# Altium footprint library Connectors.PcbLib: 23 footprints (part 1 of 2)
Each footprint in its own frame and in the unit in brackets; x right, y up, seen from the top. Pads: shape width x height; smd on the part's side, far side on the other; paste and mask are expansions set on the pad; w line width, h text height; cw(c..) or ccw(c..) is an arc to the next point about the centre after c.
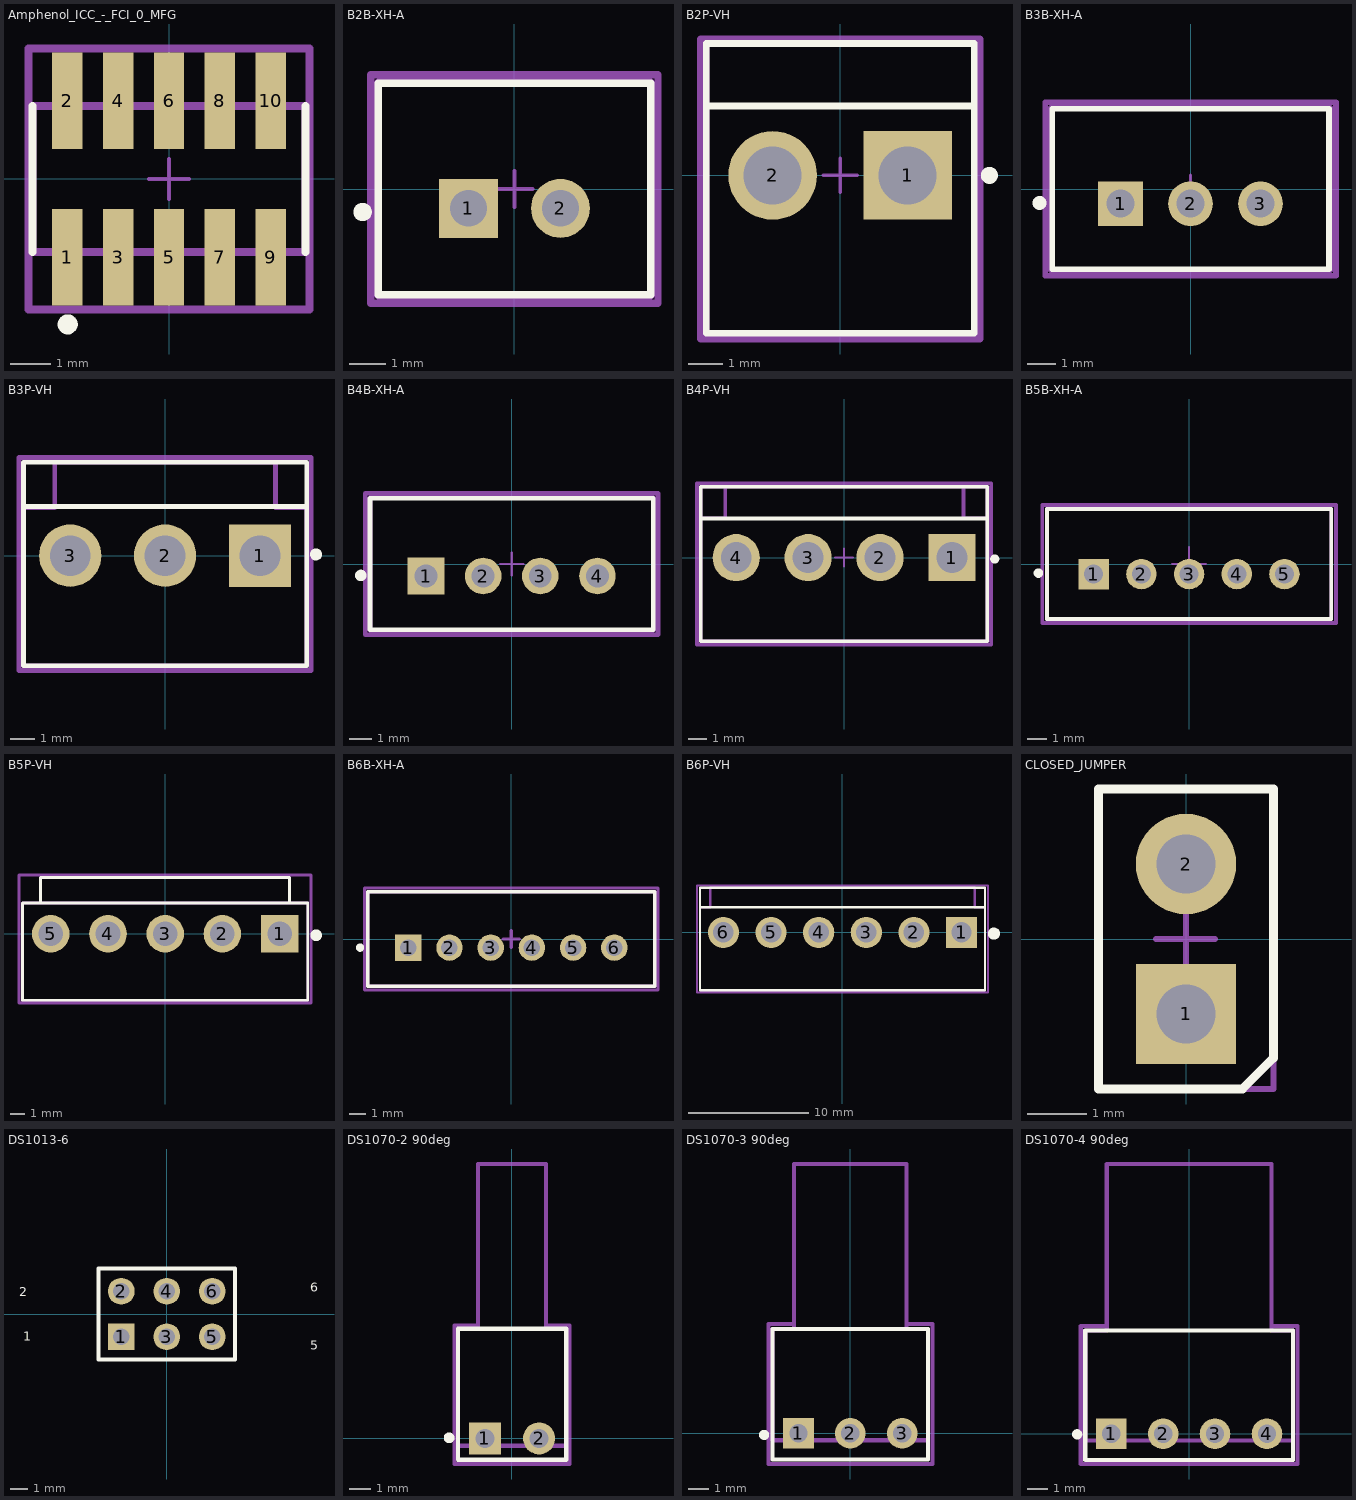
[diagram p0: the footprints below, top view; thin cyan lines are the x and y axes]

## Amphenol_ICC_-_FCI_0_MFG [mm]
pads (10):
  rect 0.76x2.4 smd paste+0 mask+0: 1(-2.54,-1.95) 2(-2.54,1.95) 3(-1.27,-1.95) 4(-1.27,1.95) 5(0,-1.95) 6(0,1.95) 7(1.27,-1.95) 8(1.27,1.95) 9(2.54,-1.95) 10(2.54,1.95)
Top Overlay:
  circle w0.25: c-2.525,-3.625 r0.125
  lines w0.2: -3.4,-1.815 -3.4,1.815 ; 3.4,-1.815 3.4,1.815
Mechanical 10:
  lines w0.2: -3.5,-3.25 -3.5,3.25 3.5,3.25 3.5,-3.25 -3.5,-3.25
  text ".Designator" at 0,-0.001 h1
Mechanical 12:
  lines w0.2: -3.4,-1.815 -3.4,1.815 3.4,1.815 3.4,-1.815 -3.4,-1.815
Mechanical 15:
  lines w0.1: -0.5,0 0.5,0 ; 0,-0.5 0,0.5
  lines w0.2: -3.5,-3.25 -3.5,3.25 3.5,3.25 3.5,-3.25 -3.5,-3.25
3D body "Conn_Amphenol_ICC_-_FCI_20021121-00010C4LF_eec.STEP": height 0.25, standoff 0, extent -3.5,-3.25 3.5,3.25

## B2B-XH-A [mm] "Conn Shrouded Header HDR 2 POS 2.5mm Solder ST Thru-Hole Box"
pads (2):
  rect 1.6x1.6 hole 1 paste-1000 mask+0: 1(-1.25,-0.525)
  round 1.6 hole 1 paste-1000 mask+0: 2(1.25,-0.525)
Top Overlay:
  circle w0.25: c-4.125,-0.625 r0.125
  lines w0.2: -3.7,-2.875 3.7,-2.875 3.7,2.875 -3.7,2.875 -3.7,-2.875
Mechanical 10:
  lines w0.2: -3.7,-2.9 3.7,-2.9 3.7,2.9 -3.7,2.9 -3.7,-2.9
Mechanical 15:
  lines w0.1: -0.5,0 0.5,0 ; 0,-0.5 0,0.5
  lines w0.2: -3.9,-3.1 -3.9,3.1 3.9,3.1 3.9,-3.1 -3.9,-3.1
3D body "User Library-B2B-XH-A.STEP": height 7, standoff -3.4, extent -3.7,-2.858 3.7,2.892

## B2P-VH [mm] "VH Series 3.96 mm Pitch, Compact, Lock Mechanism also Prevents Misinsertion"
pads (2):
  rect 2.6x2.6 hole 1.7 paste-1000 mask+0: 1(1.98,0)
  round 2.6 hole 1.7 paste-1000 mask+0: 2(-1.98,0)
Top Overlay:
  circle w0.25: c4.375,0 r0.125
  lines w0.2: -3.93,2.032 3.93,2.032 ; -3.93,-4.63 3.931,-4.63 3.931,3.87 -3.93,3.87 -3.93,-4.63
Mechanical 10:
  lines w0.2: -3.93,-4.63 3.931,-4.63 3.931,3.87 -3.93,3.87 -3.93,-4.63
Mechanical 15:
  lines w0.1: -0.5,0 0.5,0 ; 0,-0.5 0,0.5
  lines w0.2: -4.1,-4.8 4.1,-4.8 4.1,4 -4.1,4 -4.1,-4.8
3D body "User Library-B2P-VH-BK.STEP": height 10.77, standoff -3.83, extent -3.93,-4.631 3.93,3.869

## B3B-XH-A [mm] "Conn Shrouded Header HDR 3 POS 2.5mm Solder ST Thru-Hole Box"
pads (3):
  rect 1.6x1.6 hole 1 paste-1000 mask+0: 1(-2.5,-0.525)
  round 1.6 hole 1 paste-1000 mask+0: 2(0,-0.525) 3(2.5,-0.525)
Top Overlay:
  circle w0.25: c-5.4,-0.5 r0.125
  lines w0.2: -4.95,-2.875 4.95,-2.875 4.95,2.875 -4.95,2.875 -4.95,-2.875
Mechanical 10:
  lines w0.2: -5,-2.9 5,-2.9 5,2.9 -5,2.9 -5,-2.9
Mechanical 15:
  lines w0.1: -0.5,0 0.5,0 ; 0,-0.5 0,0.5
  lines w0.2: -5.2,-3.1 5.2,-3.1 5.2,3.1 -5.2,3.1 -5.2,-3.1
3D body "Conn_JST_B3B-XH-A_eec.STEP": height 0.25, standoff 0, extent -5.05,-2.975 5.05,2.975

## B3P-VH [mm] "Connector Header, VH Series, 3 Position, 3.96mm, 250V, Shrouded - 1 Wall, Through Hole, Solder, Locking Ramp, Natural"
height 10.9
pads (3):
  rect 2.6x2.6 hole 1.7 paste-1000 mask+0: 1(3.96,0)
  round 2.6 hole 1.7 paste-1000 mask+0: 2(0,0) 3(-3.96,0)
Top Overlay:
  circle w0.25: c6.3,0.05 r0.125
  lines w0.2: -5.842,2.052 5.842,2.052 ; -5.91,-4.6 5.91,-4.6 5.91,3.9 -5.91,3.9 -5.91,-4.6
Mechanical 10:
  lines w0.2: -5.91,-4.6 5.91,-4.6 5.91,2 4.61,2 4.61,3.9 -4.61,3.9 -4.61,2 -5.91,2 -5.91,-4.6
Mechanical 15:
  lines w0.2: -0.5,0 0.5,0 ; 0,-0.5 0,0.5 ; -6.1,-4.8 6.1,-4.8 6.1,4.1 -6.1,4.1 -6.1,-4.8
3D body "User Library-B3P-VH-BK.STEP": height 10.77, standoff -3.83, extent -5.91,-4.611 5.91,3.889

## B4B-XH-A [mm] "XH Series 4 Position 2.5 mm Pitch Through Hole Crimp Top Entry Shrouded Header"
pads (4):
  rect 1.6x1.6 hole 1 paste-1000 mask+0: 1(-3.75,-0.525)
  round 1.6 hole 1 paste-1000 mask+0: 2(-1.25,-0.525) 3(1.25,-0.525) 4(3.75,-0.525)
Top Overlay:
  circle w0.25: c-6.6,-0.5 r0.125
  lines w0.2: -6.2,-2.875 6.2,-2.875 6.2,2.875 -6.2,2.875 -6.2,-2.875
Mechanical 10:
  lines w0.2: -6.2,-2.9 6.2,-2.9 6.2,2.9 -6.2,2.9 -6.2,-2.9
Mechanical 12:
  lines w0.15: -6.2,-2.875 6.2,-2.875 6.2,2.875 -6.2,2.875 -6.2,-2.875
Mechanical 15:
  lines w0.1: -0.5,0 0.5,0 ; 0,-0.5 0,0.5
  lines w0.2: -6.4,-3.1 6.4,-3.1 6.4,3.1 -6.4,3.1 -6.4,-3.1
3D body "User Library-B4B-XH-A.STEP": height 7, standoff -3.4, extent -6.2,-2.883 6.2,2.867

## B4P-VH [mm] "VH Series 4 Position 3.96 mm Pitch Top Entry Locking Header"
pads (4):
  rect 2.6x2.6 hole 1.7 paste-1000 mask+0: 1(5.94,0)
  round 2.6 hole 1.7 paste-1000 mask+0: 2(1.98,0) 3(-1.98,0) 4(-5.94,0)
Top Overlay:
  circle w0.25: c8.3,-0.075 r0.125
  lines w0.2: -7.89,2.158 7.862,2.158 ; -7.89,-4.6 -7.89,3.9 7.89,3.9 7.89,-4.6 -7.89,-4.6
Mechanical 10:
  lines w0.2: -7.9,2.164 -6.536,2.164 -6.536,3.9 ; 6.583,3.9 6.583,2.168 7.9,2.168 ; -7.891,-4.6 -7.891,3.9 7.9,3.9 7.9,-4.6 -7.891,-4.6
Mechanical 15:
  lines w0.1: -0.5,0 0.5,0 ; 0,-0.5 0,0.5
  lines w0.2: -8.1,-4.8 8.1,-4.8 8.1,4.1 -8.1,4.1 -8.1,-4.8
3D body "User Library-B4P-VH-BK.STEP": height 10.77, standoff -3.83, extent -7.89,-4.6 7.89,3.9

## B5B-XH-A [mm] "Connector Header, XH Series, 5 Position, 2.50mm, Through Hole, Press-Fit, Solder, Natural"
pads (5):
  rect 1.6x1.6 hole 1 paste-1000 mask+0: 1(-5,-0.525)
  round 1.6 hole 1 paste-1000 mask+0: 2(-2.5,-0.525) 3(0,-0.525) 4(2.5,-0.525) 5(5,-0.525)
Top Overlay:
  circle w0.25: c-7.9,-0.475 r0.125
  lines w0.2: -7.45,-2.875 7.45,-2.875 7.45,2.875 -7.45,2.875 -7.45,-2.875
Mechanical 10:
  lines w0.2: -7.45,-2.875 7.45,-2.875 7.45,2.875 -7.45,2.875 -7.45,-2.875
Mechanical 12:
  lines w0.15: -7.45,-2.875 7.45,-2.875 7.45,2.875 -7.45,2.875 -7.45,-2.875
Mechanical 15:
  lines w0.1: -0.893,0 0.893,0 ; 0,-0.893 0,0.893
  lines w0.2: -7.7,-3.1 7.7,-3.1 7.7,3.1 -7.7,3.1 -7.7,-3.1
3D body "User Library-B5B-XH-A.step": height 7, standoff -3.4, extent -7.45,-2.875 7.45,2.875

## B5P-VH [mm] "Conn Wire to Board HDR 5 POS 3.96mm Solder ST Top Entry Thru-Hole Box"
pads (5):
  rect 2.6x2.6 hole 1.7: 1(7.92,0)
  round 2.6 hole 1.7: 2(3.96,0) 3(0,0) 4(-3.96,0) 5(-7.92,0)
Top Overlay:
  circle w0.4: c10.45,-0.1 r0.2
  lines w0.2: -8.62,2.127 -8.62,3.896 8.62,3.896 8.62,2.127 ; -8.62,2.127 -9.87,2.127 -9.87,-4.6 9.87,-4.6 9.87,2.127 8.62,2.127 ; -8.62,2.127 8.62,2.127
Mechanical 10:
  lines w0.2: -8.62,2.127 8.62,2.127 ; -8.62,2.127 -9.87,2.127 -9.87,-4.6 9.87,-4.6 9.87,2.127 8.62,2.127 ; -8.62,2.127 -8.62,3.896 8.62,3.896 8.62,2.127
Mechanical 15:
  lines w0.2: -10.12,-4.8 -10.12,4.077 10.1,4.077 10.1,-4.8 -10.12,-4.8
3D body "User Library-B5P-VH-BK.STEP": height 10.77, standoff -3.83, extent -9.87,-4.605 9.87,3.894

## B6B-XH-A [mm] "Conn Shrouded Header HDR 6 POS 2.5mm Solder ST Thru-Hole Box"
pads (6):
  rect 1.6x1.6 hole 1 paste-1000 mask+0: 1(-6.25,-0.525)
  round 1.6 hole 1 paste-1000 mask+0: 2(-3.75,-0.525) 3(-1.25,-0.525) 4(1.25,-0.525) 5(3.75,-0.525) 6(6.25,-0.525)
Top Overlay:
  circle w0.25: c-9.175,-0.525 r0.125
  lines w0.2: -8.7,-2.875 -8.7,2.875 8.7,2.875 8.7,-2.875 -8.7,-2.875
Mechanical 10:
  lines w0.2: -8.7,-2.875 -8.7,2.875 8.7,2.875 8.7,-2.875 -8.7,-2.875
Mechanical 12:
  lines w0.2: -8.7,-2.875 -8.7,2.875 8.7,2.875 8.7,-2.875 -8.7,-2.875
Mechanical 15:
  lines w0.2: -0.5,0 0.5,0 ; 0,-0.5 0,0.5 ; -8.9,-3.1 -8.9,3.1 8.9,3.1 8.9,-3.1 -8.9,-3.1
3D body "Conn_JST_B6B-XH-A_eec.STEP": height 0.25, standoff 0, extent -8.8,-2.975 8.8,2.975

## B6P-VH [mm] "VH Series 3.96 mm Pitch 6 Position Top Entry Locking Wire to Board Header"
pads (6):
  rect 2.6x2.6 hole 1.7: 1(9.9,0)
  round 2.6 hole 1.7: 2(5.94,0) 3(1.98,0) 4(-1.98,0) 5(-5.94,0) 6(-9.9,0)
Top Overlay:
  circle w0.5: c12.6,-0.1 r0.25
  lines w0.2: -11.85,2.105 11.85,2.105 ; -11.85,-4.8 -11.85,3.7 11.85,3.7 11.85,-4.8 -11.85,-4.8
Mechanical 10:
  lines w0.2: 11.85,-4.8 -11.85,-4.8 -11.85,2.105 ; -11.85,2.105 -11.85,2.105 ; -11.85,2.105 -11,2.105 -11,3.7 11,3.7 11,2.105 11.85,2.105 ; 11.85,-4.8 11.85,2.105 ; 11.85,-4.8 11.85,-4.8 ; 11.85,2.105 11.85,2.105
Mechanical 15:
  lines w0.2: -12.1,-5 12.1,-5 12.1,3.9 -12.1,3.9 -12.1,-5
3D body "JST_B6P-VH(LF)(SN)_HDR_TH_3.96mm_pitch_V.STEP": height 10.77, standoff -3.83, extent -11.85,-4.8 11.85,3.7

## CLOSED_JUMPER [mm]
pads (2):
  rect 1.7x1.7 hole 1: 1(0,-1.27)
  round 1.7 hole 1: 2(0,1.27)
Top Overlay:
  lines w0.15: -1.48,-2.54 0.955,-2.54 1.48,-2.015 1.48,2.54 -1.48,2.54 -1.48,-2.54
Mechanical 15:
  lines w0.1: -0.508,0 0.492,0 ; 0,-0.475 0,0.525 ; -1.48,-2.54 1.48,-2.54 1.48,2.54 -1.48,2.54 -1.48,-2.54
3D body "Samtec-TSW-102-23-F-S.step": height 8.38, standoff -2.92, extent -1.27,-2.54 1.27,2.54
3D body "jumper_akspt_z-black.stp": height 8.87, standoff 2.9, extent -1.228,-2.49 1.212,2.49

## DS1013-6 [mm] "Connector; Header; 3x2 Position"
pads (6):
  rect 1.5x1.5 hole 0.9: 1(-2.54,-1.27)
  round 1.5 hole 0.9: 2(-2.54,1.27) 3(0,-1.27) 4(0,1.27) 5(2.54,-1.27) 6(2.54,1.27)
Top Overlay:
  lines w0.2: -1.058,-2.54 3.81,-2.54 ; 3.81,-2.54 -3.81,-2.54 -3.81,2.54 3.81,2.54 3.81,-2.54
  text "1" at -8,-1.5 h0.5
  text "2" at -8.25,1 h0.5
  text "5" at 8,-2 h0.5
  text "6" at 8,1.25 h0.5
3D body "User Library-DS1013-6S (IDC-6MS CONNFLY).step": height 8.87, standoff -3.73, extent -7.71,-4.4 7.71,4.4

## DS1070-2 90deg [mm] "connfly electronic CO,.LTD."
pads (2):
  rect 1.5x1.5 hole 0.9: 1(-1.27,0)
  round 1.5 hole 0.9: 2(1.27,0)
Top Overlay:
  circle w0.25: c-2.95,0.025 r0.125
  lines w0.2: -2.539,-1 2.54,-1 2.54,5.15 -2.539,5.15 -2.539,-1
Mechanical 10:
  lines w0.2: -2.539,-0.35 2.54,-0.35 2.54,5.15 1.601,5.15 1.601,12.875 -1.6,12.875 -1.6,5.15 -2.539,5.15 -2.539,-0.35 -2.54,-0.35
Mechanical 15:
  lines w0.2: -2.7,-1.2 -2.7,5.3 -1.6,5.3 -1.6,12.875 1.6,12.875 1.6,5.3 2.7,5.3 2.7,-1.2 -2.7,-1.2
3D body "User Library-WF-2R.step": height 5.8, standoff -3.4, extent -2.54,-0.35 2.54,12.85

## DS1070-3 90deg [mm] "Connector; Header; 3 Position"
pads (3):
  rect 1.5x1.5 hole 0.9: 1(-2.54,0)
  round 1.5 hole 0.9: 2(0,0) 3(2.54,0)
Top Overlay:
  circle w0.25: c-4.225,-0.075 r0.125
  lines w0.2: -3.81,-1.27 -3.81,5.125 3.81,5.125 3.81,-1.27 -3.81,-1.27
Mechanical 10:
  lines w0.2: -3.81,-0.335 -3.81,5.125 -2.75,5.125 -2.75,13.2 2.752,13.2 2.752,5.125 3.81,5.125 3.81,-0.335 -3.81,-0.335
Mechanical 15:
  lines w0.2: -4,-1.5 -4,5.35 -2.75,5.35 -2.75,13.2 2.75,13.2 2.75,5.35 4.025,5.35 4.025,5.275 4.025,-1.5 -4,-1.5
3D body "61900311021.stp": height 5.9, standoff -3.3, extent -3.81,-0.335 3.81,13.185

## DS1070-4 90deg [mm] "Connector; Header; 4 Position"
pads (4):
  rect 1.5x1.5 hole 0.9: 1(-3.81,0)
  round 1.5 hole 0.9: 2(-1.27,0) 3(1.27,0) 4(3.81,0)
Top Overlay:
  circle w0.25: c-5.475,-0.025 r0.125
  lines w0.2: -5.08,-1.27 5.08,-1.27 5.08,5.05 -5.08,5.05 -5.08,-1.27
Mechanical 10:
  lines w0.2: -5.08,-0.325 -5.08,5.05 -4.025,5.05 -4.025,13.2 4.025,13.2 4.025,5.05 5.08,5.05 5.08,-0.325 -5.08,-0.325
Mechanical 15:
  lines w0.2: -5.3,-1.475 5.3,-1.475 5.3,5.275 4.025,5.275 4.025,13.2 -4.025,13.2 -4.025,5.275 -5.3,5.275 -5.3,-1.475
3D body "61900411021.stp": height 5.9, standoff -3.3, extent -5.08,-0.325 5.08,13.195